# EAGLE library part NRF24AP1 (library 0SBLib)
NORDIC SEMICONDUCTOR - NRF24AP1 - TRANSCEIVER 2.4GHZ QFN24
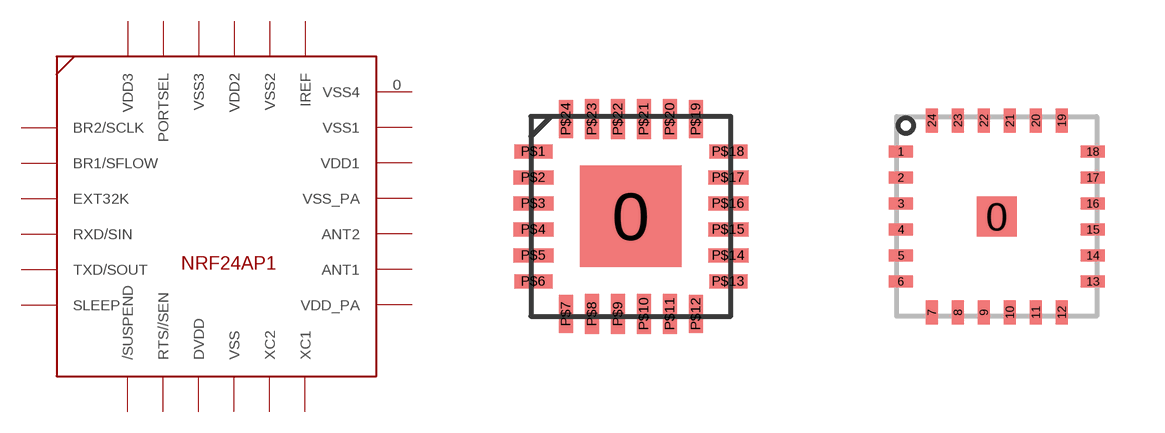
[diagram p0: symbol with the pads of QFN24_5X5; footprints QFN24_5X5, MLP-24]

Designator prefix -

## NRF24AP1QFN  [QFN24_5X5]
0  VSS4
P$1  BR2/SCLK
P$2  BR1/SFLOW
P$3  EXT32K
P$4  RXD/SIN
P$5  TXD/SOUT
P$6  SLEEP
P$7  /SUSPEND
P$8  RTS//SEN
P$9  DVDD
P$10  VSS
P$11  XC2
P$12  XC1
P$13  VDD_PA
P$14  ANT1
P$15  ANT2
P$16  VSS_PA
P$17  VDD1
P$18  VSS1
P$19  IREF
P$20  VSS2
P$21  VDD2
P$22  VSS3
P$23  PORTSEL
P$24  VDD3

## NRF24AP1MLP  [MLP-24]
0  VSS4
1  BR2/SCLK
2  BR1/SFLOW
3  EXT32K
4  RXD/SIN
5  TXD/SOUT
6  SLEEP
7  /SUSPEND
8  RTS//SEN
9  DVDD
10  VSS
11  XC2
12  XC1
13  VDD_PA
14  ANT1
15  ANT2
16  VSS_PA
17  VDD1
18  VSS1
19  IREF
20  VSS2
21  VDD2
22  VSS3
23  PORTSEL
24  VDD3

## Footprint QFN24_5X5 (pad centres in mm)
smd 2.54 x 2.54: 0 0,0
smd 0.95 x 0.35: P$1 -2.438,1.625; P$6 -2.438,-1.625; P$13 2.438,-1.625; P$18 2.438,1.625
smd 1 x 0.35: P$2 -2.438,0.975; P$3 -2.438,0.325; P$4 -2.438,-0.325; P$5 -2.438,-0.975; P$14 2.438,-0.975; P$15 2.438,-0.325; P$16 2.438,0.325; P$17 2.438,0.975
smd 0.35 x 0.95: P$7 -1.625,-2.438; P$12 1.625,-2.438; P$19 1.625,2.438; P$24 -1.625,2.438
smd 0.35 x 1: P$8 -0.975,-2.438; P$9 -0.325,-2.438; P$10 0.325,-2.438; P$11 0.975,-2.438; P$20 0.975,2.438; P$21 0.325,2.438; P$22 -0.325,2.438; P$23 -0.975,2.438

## Footprint MLP-24 (pad centres in mm)
smd 1 x 1: 0 0,0
smd 0.61 x 0.305: 1 -2.401,1.625; 2 -2.401,0.975; 3 -2.401,0.325; 4 -2.401,-0.325; 5 -2.401,-0.975; 6 -2.401,-1.625; 13 2.401,-1.625; 14 2.401,-0.975; 15 2.401,-0.325; 16 2.401,0.325; 17 2.401,0.975; 18 2.401,1.625
smd 0.305 x 0.61: 7 -1.625,-2.401; 8 -0.975,-2.401; 9 -0.325,-2.401; 10 0.325,-2.401; 11 0.975,-2.401; 12 1.625,-2.401; 19 1.625,2.401; 20 0.975,2.401; 21 0.325,2.401; 22 -0.325,2.401; 23 -0.975,2.401; 24 -1.625,2.401